# Altium schematic symbol library TC2015-5P0VCTTR.SchLib: 2 symbols
Pins are listed as number, name and electrical type; pins without a type are passive.

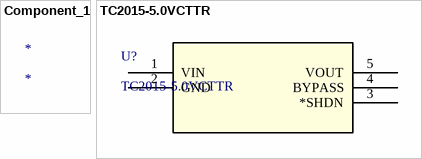
[diagram p0: symbols Component_1 to TC2015-5.0VCTTR]

## Component_1
designator *

## TC2015-5.0VCTTR
designator U?
No Description Available; Vendor: Microchip; Built_By: EMA_Jessica; SourceLibrary: Microchip_2019-08-23_6; Manufacturer_Part_Number: TC2015-5.0VCTTR; Copyright: Copyright (C) 2018 Accelerated Designs. All rights reserved; RefDes: RefDes; Type: DEV
footprint SOT-23-5_MC_MCH
pins: 1 VIN, 2 GND, 3 *SHDN, 4 BYPASS, 5 VOUT